# EAGLE library part RJ45 (library pimoroni-connectors)
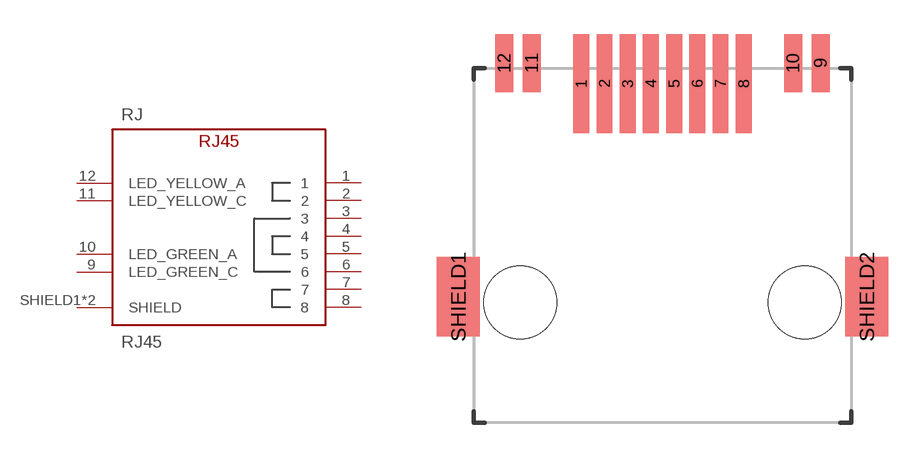
[diagram p36: symbol with the pads of RJ45; footprint RJ45]

Designator prefix RJ

## RJ45  [RJ45]
1  1
2  2
3  3
4  4
5  5
6  6
7  7
8  8
9  LED_GREEN_C
10  LED_GREEN_A
11  LED_YELLOW_C
12  LED_YELLOW_A
SHIELD1  SHIELD
SHIELD2  SHIELD

## Footprint RJ45 (pad centres in mm)
smd 0.7 x 4.35: 1 -3.57,-2.175; 2 -2.55,-2.175; 3 -1.53,-2.175; 4 -0.51,-2.175; 5 0.51,-2.175; 6 1.53,-2.175; 7 2.55,-2.175; 8 3.57,-2.175
smd 0.8 x 2.55: 9 6.95,-1.275; 10 5.74,-1.275; 11 -5.74,-1.275; 12 -6.95,-1.275
smd 1.9 x 3.5: SHIELD1 -8.975,-11.55; SHIELD2 8.975,-11.55
hole 3.2 at 6.25,-11.8
hole 3.2 at -6.25,-11.8